# EAGLE library part USB_MALE (library Mechanical)
Board mounted male USB plugs.
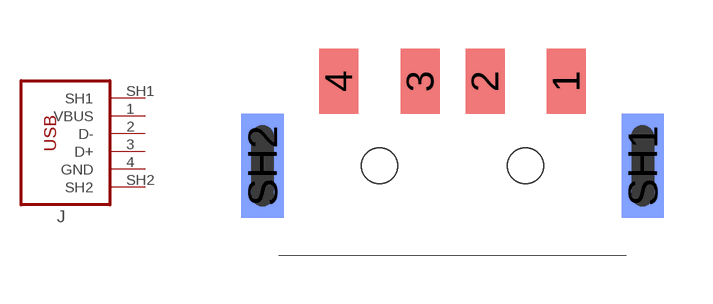
[diagram p83: symbol with the pads of USB-A-MALE; footprint USB-A-MALE]

Designator prefix J

## USB_MALE-MALE-A  [USB-A-MALE]
1  VBUS
2  D-
3  D+
4  GND
SH1  SH1
SH2  SH2

## Footprint USB-A-MALE (pad centres in mm)
USB A Male pcb mount plug. CONN PLUG USB 4POS RT ANG SMD. Molex, Inc. Digikey P/N: WM3983CT-ND, Man. P/N: 0480372200
smd 1.2 x 2: 1 3.5,0; 2 1,0; 3 -1,0; 4 -3.5,0
smd 1.3 x 3.2 bottom: SH1 5.85,-2.6; SH2 -5.85,-2.6
hole 1.1 at -2.25,-2.6
hole 1.1 at 2.25,-2.6